# Altium integrated library Switches - IC Integrated.IntLib: 3 symbols
Pins are listed as number, name and electrical type; pins without a type are passive.

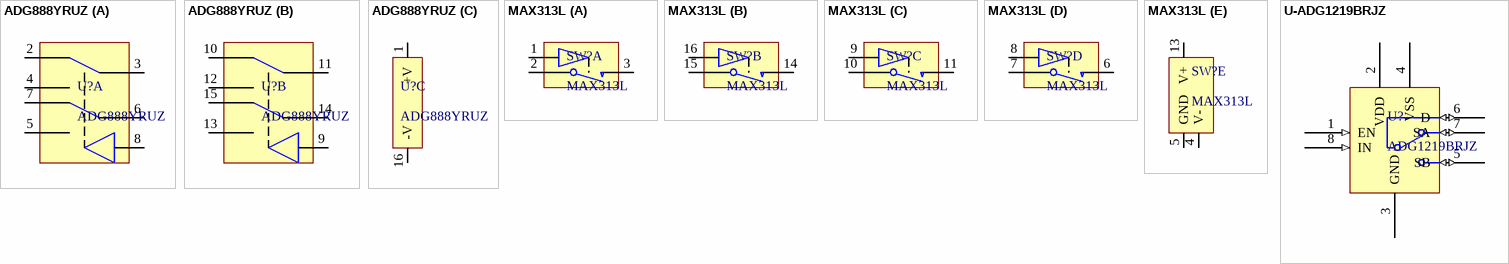
[diagram p0: symbols ADG888YRUZ to U-ADG1219BRJZ]

## ADG888YRUZ
designator U?
IC Switch, dual, DPDT, TSSOP-16; Manufacturer: Analog Devices Inc.; On-State Resistance: 480 mOhm; Voltage Supply Source: Single Supply; Current Rating (AC/DC): 400mA(dc); Supply Voltages: 1.8 V ~ 5.5 V; Voltage Rating (AC/DC): 5V (dc); Package Reference: TSSOP-16; Supplier 1: TME; Supplier Part Number 1: ADG888YRUZ; Configuration: DPDT; Supplier 2: Newark; Supplier Part Number 2: 19M0698; Supplier 3: Mouser; Supplier Part Number 3: 584-ADG888YRUZ; Supplier 4: Digi-Key; Supplier Part Number 4: ADG888YRUZ-ND; PackageDescription: 16-Pin PLASTIC SMALL-OUTLINE PACKAGE 6.4 X 5.0 mm Nominal Footprint; Part Number: ADG888YRUZ; Switch Function: -
footprint TSSOP-16 (16-Pin PLASTIC SMALL-OUTLINE PACKAGE 6.4 X 5.0 mm Nominal Footprint)
3D model TSSOP-16 (PCB3D Model)
part A pins: 2, 3, 4, 5, 6, 7, 8
part B pins: 9, 10, 11, 12, 13, 14, 15
part C pins: 1 +V (power), 16 -V (power)

## MAX313L
designator SW?
IC Switch, quad, SPST, 10 ohm; Manufacturer: Maxim; Part Number: MAX313LESE+; Current Rating: +/- 100mA (continuous); On-State Resistance: 10 ohm; Supply Voltage, +V: 4.5V - 36V; Supply Voltage, +/-V: +/-4.5 to 20V; Configuration: SPST; Package Reference: SO; PackageDescription: 16-pin, Plastic, SOIC; Supplier 1: Digi-Key; Supplier Part Number 1: MAX313LESE+-ND
footprint Model Name (Footprint not found)
footprint SOIC-16 (SOIC, 16-Leads, Body 9.9x3.9mm, Pitch 1.27mm, IPC Low Density)
part A pins: 1 IN1, 2 COM1, 3 NC1
part B pins: 14 NC2, 15 COM2, 16 IN2
part C pins: 9 IN3, 10 COM3, 11 NC3
part D pins: 6 NC4, 7 COM4, 8 IN4
part E pins: 4 V- (power), 5 GND (power), 13 V+ (power)

## U-ADG1219BRJZ
designator U?, comment ADG1219BRJZ
IC Switch, SPDT, SOT23-8; Manufacturer: Analog Devices Inc.; Supply Voltages: +12V or +/- 15V; Configuration: SPDT -NC/NO; On-State Resistance: 475 Ohm; Voltage Supply Source: Single/Dual; Part Number: ADG1219BRJZ; PackageDescription: 8 pin SOT-23; Switch Function: -; Voltage Rating (AC/DC): -; Current Rating (AC/DC): -; Package Reference: SOT23-8; Supplier 1: Mouser; Supplier Part Number 1: 584-ADG1219BRJZ-R7; Supplier 2: Newark; Supplier Part Number 2: 73T8144; Supplier 3: Digi-Key; Supplier Part Number 3: ADG1219BRJZ-REEL7CT-ND
footprint SOT23-8 (SOT23, 8-Leads, Body 2.9x1.6mm, Pitch 0.65mm, Lead Span 2.8mm, IPC Low Density)
3D model SOT23-8 (PCB3D Model)
pins: 1 EN (in) "Active High Digital Input. When this pin is low, th  e device is disabled and all switches are turned off.  When this pin is high, the IN logic in  put determines which switch is turned on", 2 VDD (power) "Positive Power Supply", 3 GND (power) "Ground", 4 VSS (power) "Negative Power Supply", 5 SB (io) "Source Terminal. Can be an input or output.", 6 D (io) "Drain Terminal. Can be an input or output.", 7 SA (io) "Source Terminal. Can be an input or output.", 8 IN (in) "Logic Control Input"